# EAGLE library part SST26VF032B (library atmel-samd)
Microchip SST26VF032B QSPI/SQI flash
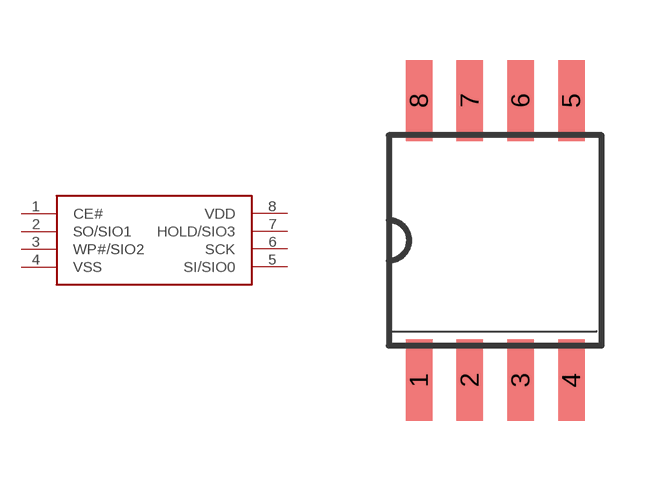
[diagram p7: symbol with the pads of SO08-208; footprint SO08-208]

Designator prefix U

## SST26VF032B  [SO08-208]
1  CE#
2  SO/SIO1
3  WP#/SIO2
4  VSS
5  SI/SIO0
6  SCK
7  HOLD/SIO3
8  VDD

## Footprint SO08-208 (pad centres in mm)
SOIC .208" 8 LEAD Source: http://pdfserv.maxim-ic.com/package_dwgs/G4010-001.PDF
smd 0.66 x 2.032: 1 -1.905,-3.498; 2 -0.635,-3.498; 3 0.635,-3.498; 4 1.905,-3.498; 5 1.905,3.498; 6 0.635,3.498; 7 -0.635,3.498; 8 -1.905,3.498